# Altium schematic symbol library Mean Well MDD06.SchLib: 1 symbol
Pins are listed as number, name and electrical type; pins without a type are passive.

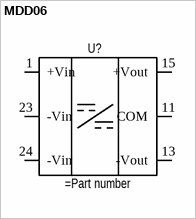
[diagram p0: symbol MDD06]

## MDD06
designator U?
6W DIP Package DC-DC Medical Grade Regulated Converter
pins: 1 +Vin, 11 COM, 13 -Vout, 15 +Vout, 23 -Vin, 24 -Vin